# Altium schematic symbol library D_Schottky_Dual.Schlib: 1 symbol
Pins are listed as number, name and electrical type; pins without a type are passive.

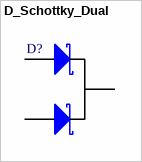
[diagram p0: symbol D_Schottky_Dual]

## D_Schottky_Dual
designator D?
Diode, Schottky
signal-integrity model D Schottky
pins: 1 A1, 2 A2, 3 K